# Altium schematic symbol library SN74LVC1G126.Schlib: 1 symbol
Pins are listed as number, name and electrical type; pins without a type are passive.

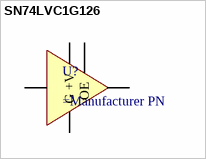
[diagram p0: symbol SN74LVC1G126]

## SN74LVC1G126
designator U?
IC, Single Buffer Tri-State output
pins: 1 OE, 2 A, 3 G, 4 Y, 5 +V